# Altium schematic symbol library MSD_DB01M_12P.Schlib: 1 symbol
Pins are listed as number, name and electrical type; pins without a type are passive.

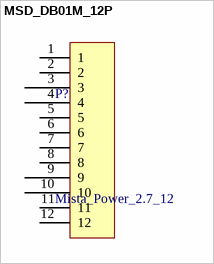
[diagram p0: symbol MSD_DB01M_12P]

## MSD_DB01M_12P
designator P?, comment Mista_Power_2.7_12
2.7mm Pitch, 12 Pin Right, Male Chinese Power Connector
pins: 1, 2, 3, 4, 5, 6, 7, 8, 9, 10, 11, 12